# Altium footprint library PCB - LEADLESS - SON - SPANSION WSON-8 6X5MM.PCBLIB: 1 footprints
Each footprint in its own frame and in the unit in brackets; x right, y up, seen from the top. Pads: shape width x height; smd on the part's side, far side on the other; paste and mask are expansions set on the pad; w line width, h text height; cw(c..) or ccw(c..) is an arc to the next point about the centre after c.
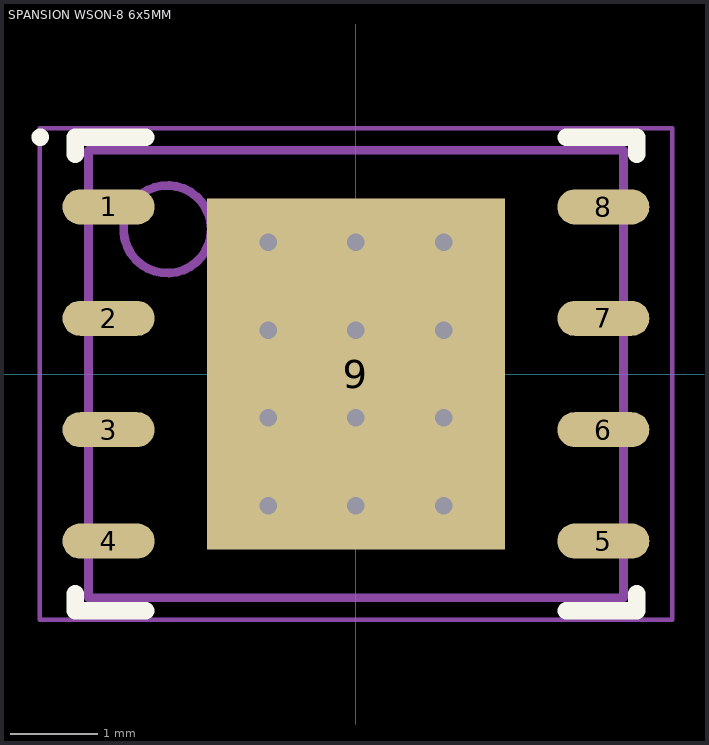
[diagram p0: the footprint, top view; thin cyan lines are the x and y axes]

## SPANSION WSON-8 6x5MM [mm] "SON, 8-Leads, Body 5.00x6.00mm, Pitch 1.27mm, Thermal Pad 4.00x3.40mm, IPC Medium Density"
height 0.8
pads (9):
  oval 1.05x0.4 smd: 1(-2.82,1.905) 2(-2.82,0.635) 3(-2.82,-0.635) 4(-2.82,-1.905) 5(2.82,-1.905) 6(2.82,-0.635) 7(2.82,0.635) 8(2.82,1.905)
  rect 3.4x4 smd paste-1.7 mask+0: 9(0,0)
via 1,-1.5 diameter 0.5 hole 0.2
via 0,-1.5 diameter 0.5 hole 0.2
via -1,-1.5 diameter 0.5 hole 0.2
via 1,-0.5 diameter 0.5 hole 0.2
via 0,-0.5 diameter 0.5 hole 0.2
via -1,-0.5 diameter 0.5 hole 0.2
via 1,0.5 diameter 0.5 hole 0.2
via 0,0.5 diameter 0.5 hole 0.2
via -1,0.5 diameter 0.5 hole 0.2
via 1,1.5 diameter 0.5 hole 0.2
via 0,1.5 diameter 0.5 hole 0.2
via -1,1.5 diameter 0.5 hole 0.2
Top Overlay:
  circle w0.1: c-3.6,2.7 r0.05
  lines w0.2: -3.2,-2.505 -3.2,-2.7 -2.395,-2.7 ; -3.2,2.505 -3.2,2.7 -2.395,2.7 ; 2.395,-2.7 3.2,-2.7 3.2,-2.505 ; 2.395,2.7 3.2,2.7 3.2,2.505
Top Paste:
  rectangle: 0.665,-1.895 1.595,-0.765
  rectangle: 0.665,-0.565 1.595,0.565
  rectangle: 0.665,0.765 1.595,1.895
  rectangle: -0.465,-1.895 0.465,-0.765
  rectangle: -0.465,-0.565 0.465,0.565
  rectangle: -0.465,0.765 0.465,1.895
  rectangle: -1.595,-1.895 -0.665,-0.765
  rectangle: -1.595,-0.565 -0.665,0.565
  rectangle: -1.595,0.765 -0.665,1.895
Mechanical 13:
  circle w0.1: c-2.15,1.65 r0.5
  lines w0.1: -3.05,-2.55 3.05,-2.55 3.05,2.55 -3.05,2.55 -3.05,-2.55
Mechanical 15:
  lines w0.05: -3.605,-2.8 3.605,-2.8 3.605,2.8 -3.605,2.8 -3.605,-2.8
  lines w0.1: -0.5,0 0.5,0 ; 0,-0.5 0,0.5
3D body: height 0.8, standoff 0, extent -3.05,-2.55 3.05,2.55